# Altium schematic symbol library ParaLight.SchLib: 2 symbols
Pins are listed as number, name and electrical type; pins without a type are passive.

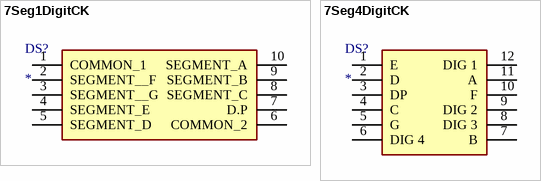
[diagram p0: symbols 7Seg1DigitCK to 7Seg4DigitCK]

## 7Seg1DigitCK
designator DS?
Display; Part Number: *
footprint DIPS762W50P254L1300H720Q10N
pins: 1 COMMON_1, 2 SEGMENT__F, 3 SEGMENT__G, 4 SEGMENT_E, 5 SEGMENT_D, 6 COMMON_2, 7 D.P, 8 SEGMENT_C, 9 SEGMENT_B, 10 SEGMENT_A

## 7Seg4DigitCK
designator DS?
Display; Manufacturer_Name: Kingbright; Manufacturer_Part_Number: CC56-12SURKWA; Description: Kingbright CC56-12SURKWA 4 Digit 7-Segment LED Display; Datasheet Link: http://www.kingbright.com/attachments/file/psearch/000/00/watermark00/CC56-12SURKWA(Ver.5A).pdf; Height: 8.1mm; Mouser Part Number: N/A; Mouser Price/Stock: https://www.mouser.com/Search/Refine.aspx?Keyword=N%2FA
footprint DIPS1524W75P254L5030H810Q12N
pins: 1 E, 2 D, 3 DP, 4 C, 5 G, 6 DIG 4, 7 B, 8 DIG 3, 9 DIG 2, 10 F, 11 A, 12 DIG 1